# EAGLE library part TEXAS_INSTRUMENTS_BY_ELEMENT14_BATCH_1_SN74CBTLV3245APW (library DMFX-1_v1.0)
OCTAL FET BUS SWITCH
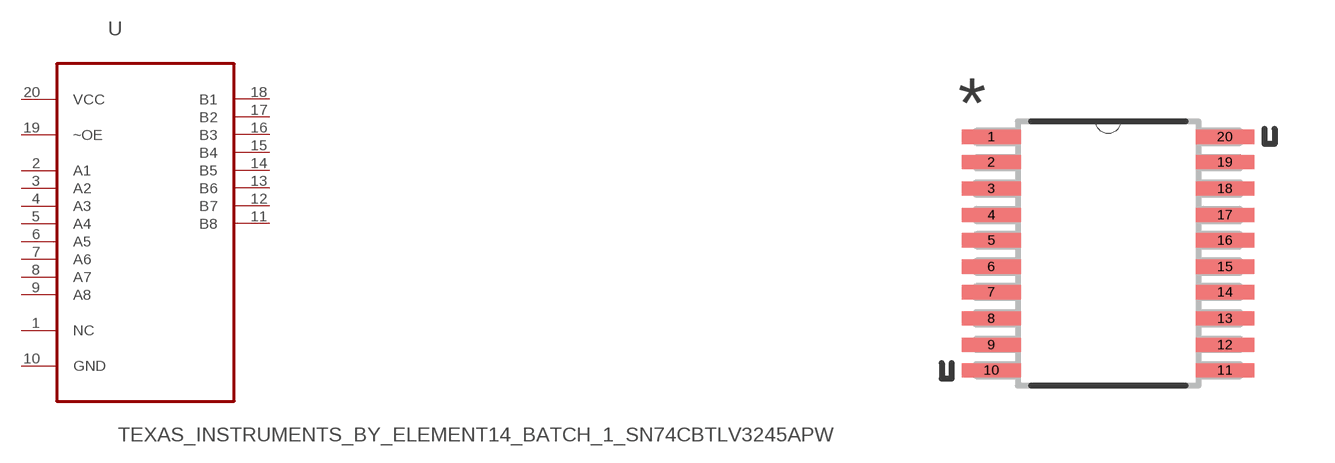
[diagram p4: symbol with the pads of TEXAS_INSTRUMENTS_BY_ELEMENT14_BATCH_1_SOP65P640X120-20N; footprint TEXAS_INSTRUMENTS_BY_ELEMENT14_BATCH_1_SOP65P640X120-20N]

Designator prefix U

## TEXAS_INSTRUMENTS_BY_ELEMENT14_BATCH_1_SN74CBTLV3245APW (MPN: SN74CBTLV3245APW; OC_FARNELL: 9590854; OC_NEWARK: 98K0294; PACKAGE: TSSOP-20; SUPPLIER: Texas Instruments)  [TEXAS_INSTRUMENTS_BY_ELEMENT14_BATCH_1_SOP65P640X120-20N]
1  NC  nc
2  A1
3  A2
4  A3
5  A4
6  A5
7  A6
8  A7
9  A8
10  GND  pas
11  B8
12  B7
13  B6
14  B5
15  B4
16  B3
17  B2
18  B1
19  ~OE  in
20  VCC  pwr

## Footprint TEXAS_INSTRUMENTS_BY_ELEMENT14_BATCH_1_SOP65P640X120-20N (pad centres in mm)
smd 1.473 x 0.356: 1 -2.921,2.921; 2 -2.921,2.286; 3 -2.921,1.626; 4 -2.921,0.965; 5 -2.921,0.33; 6 -2.921,-0.33; 7 -2.921,-0.965; 8 -2.921,-1.626; 9 -2.921,-2.286; 10 -2.921,-2.921; 11 2.921,-2.921; 12 2.921,-2.286; 13 2.921,-1.626; 14 2.921,-0.965; 15 2.921,-0.33; 16 2.921,0.33; 17 2.921,0.965; 18 2.921,1.626; 19 2.921,2.286; 20 2.921,2.921